# Altium integrated library 0201Capacitor_Yageo.IntLib: 2 symbols
Pins are listed as number, name and electrical type; pins without a type are passive.

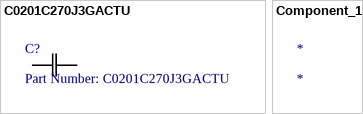
[diagram p0: symbols C0201C270J3GACTU to Component_1]

## C0201C270J3GACTU
designator C?, comment Part Number: C0201C270J3GACTU
No Description Available; Vendor: Kemet; Built_By: EMA_UL_Team; Type: DEV; Manufacturer_Part_Number: C0201C270J3GACTU; Copyright: Copyright (C) 2018 Accelerated Designs. All rights reserved; RefDes: RefDes; Value: Value
footprint C0201
pins: 1, 2

## Component_1
designator *